# Altium schematic symbol library Drivers.SchLib: 1 symbol
Pins are listed as number, name and electrical type; pins without a type are passive.

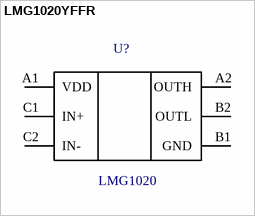
[diagram p0: symbol LMG1020YFFR]

## LMG1020YFFR
designator U?, comment LMG1020
Low-Side Gate Driver IC Inverting, Non-Inverting 6-DSBGA; Manufacture: Texas Instruments; Name: Драйвер; Model: LMG1020YFFR; Case: 6-Ball WCSP; HelpURL: https://www.digikey.com/en/products/detail/texas-instruments/LMG1020YFFR/9489199?s=N4IgTCBcDaIDYFsDmBGADGNBPAZjgTiALoC%2BQA; Value: LMG1020
footprint 6-Ball WCSP
pins: A1 VDD, A2 OUTH, B1 GND, B2 OUTL, C1 IN+, C2 IN-